# EAGLE library part IC_LTC1442 (library psas_eagle_library)
LTC1442 Dual micropower comparator w/reference
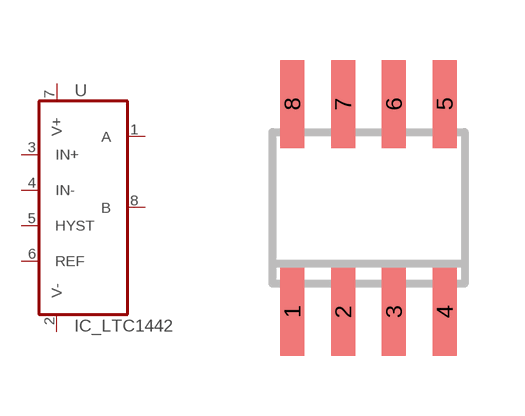
[diagram p12: symbol with the pads of SO8; footprint SO8]

Designator prefix -

## IC_LTC1442S8  [SO8]
1  A  out
2  V-  pwr
3  IN+  pas
4  IN-  pas
5  HYST  pas
6  REF  pas
7  V+  pwr
8  B  out

## Footprint SO8 (pad centres in mm)
smd 0.6 x 2.2: 1 -1.905,-2.6; 2 -0.635,-2.6; 3 0.635,-2.6; 4 1.905,-2.6; 5 1.905,2.6; 6 0.635,2.6; 7 -0.635,2.6; 8 -1.905,2.6